# Altium footprint library Filter.PcbLib: 20 footprints (part 2 of 2)
Each footprint in its own frame and in the unit in brackets; x right, y up, seen from the top. Pads: shape width x height; smd on the part's side, far side on the other; paste and mask are expansions set on the pad; w line width, h text height; cw(c..) or ccw(c..) is an arc to the next point about the centre after c.
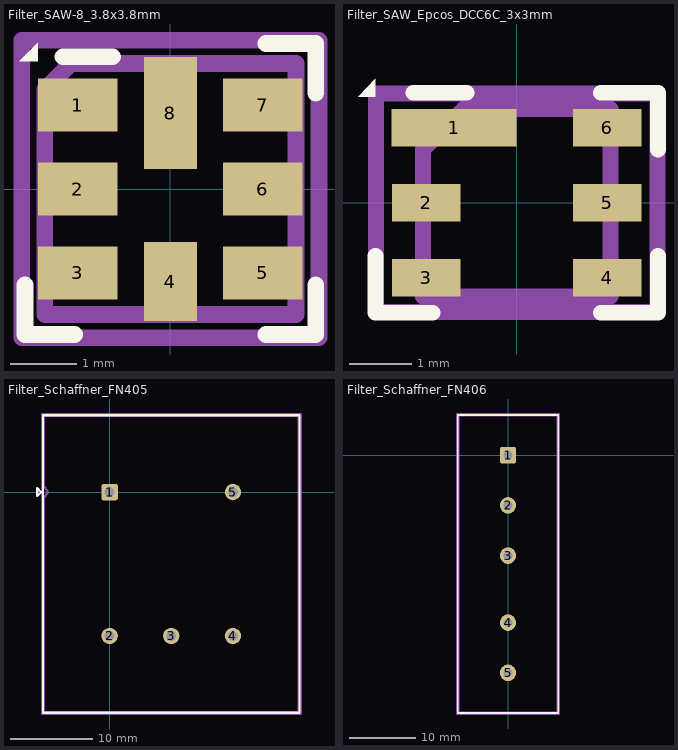
[diagram p1: the footprints below, top view; thin cyan lines are the x and y axes]

## Filter_SAW-8_3.8x3.8mm [mm]
pads (8):
  rect 1.2x0.8 smd: 1(-1.4,1.27) 2(-1.4,0) 3(-1.4,-1.27) 5(1.4,-1.27) 6(1.4,0) 7(1.4,1.27)
  rect 0.8x1.2 smd: 4(0,-1.4)
  rect 0.8x1.7 smd: 8(0,1.15)
F.SilkS:
  region: -2.01,1.93 -2.29,1.93 -2.01,2.21
  lines w0.254: -2.2,-1.45 -2.2,-2.2 -1.45,-2.2 ; -1.625,2 -0.875,2 ; 1.45,-2.2 2.2,-2.2 2.2,-1.45 ; 1.45,2.2 2.2,2.2 2.2,1.45
Top Assembly:
  lines w0.254: -1.9,-1.9 1.9,-1.9 1.9,1.9 -1.505,1.9 -1.9,1.505 -1.9,-1.9
  text "'.Designator'" at -4.087,-0.69 h1
Top Courtyard:
  lines w0.254: -2.25,-2.25 2.25,-2.25 2.25,2.25 -2.25,2.25 -2.25,-2.25
Top Designator:
  text ".Designator" at -7.808,-0.508 h1.52

## Filter_SAW_Epcos_DCC6C_3x3mm [mm]
pads (6):
  rect 2x0.6 smd: 1(-1,1.2)
  rect 1.1x0.6 smd: 2(-1.45,0) 3(-1.45,-1.2) 4(1.45,-1.2) 5(1.45,0) 6(1.45,1.2)
F.SilkS:
  region: -2.26,1.7 -2.54,1.7 -2.26,1.98
  lines w0.254: -2.26,-0.85 -2.26,-1.76 -1.35,-1.76 ; -1.655,1.76 -0.805,1.76 ; 1.35,-1.76 2.26,-1.76 2.26,-0.85 ; 1.35,1.76 2.26,1.76 2.26,0.85
Top Assembly:
  lines w0.254: -1.5,-1.5 1.5,-1.5 1.5,1.5 -0.85,1.5 -1.5,0.85 -1.5,-1.5
  text "'.Designator'" at -2.888,-0.593 h0.7
Top Courtyard:
  lines w0.254: -2.25,-1.75 2.25,-1.75 2.25,1.75 -2.25,1.75 -2.25,-1.75
Top Designator:
  text ".Designator" at -7.778,-0.461 h1.52

## Filter_Schaffner_FN405 [mm]
pads (5):
  rrect25% 2x2 hole 1.2: 1(0,0)
  round 2 hole 1.2: 2(0,-17.5) 3(7.5,-17.5) 4(15,-17.5) 5(15,0)
F.SilkS:
  lines w0.254: -8.8,-0.5 -8.3,0 -8.8,0.5 -8.8,-0.5 ; -8.1,-26.85 23.1,-26.85 23.1,9.35 -8.1,9.35 -8.1,-26.85
Top Assembly:
  lines w0.254: -8,-26.75 23,-26.75 23,9.25 -8,9.25 -8,0.7 -7.5,0 -8,-0.7 -8,-26.75
  text "'.Designator'" at 3.453,-9.59 h1
Top Courtyard:
  lines w0.254: -8.25,-27 23.25,-27 23.25,9.5 -8.25,9.5 -8.25,-27
Top Designator:
  text ".Designator" at -0.393,-9.258 h1.52

## Filter_Schaffner_FN406 [mm]
pads (5):
  rrect25% 2.5x2.5 hole 1.3: 1(0,0)
  round 2.5 hole 1.3: 2(0,-7.62) 3(0,-15.24) 4(0,-25.4) 5(0,-33.02)
F.SilkS:
  lines w0.254: -7.6,-39.11 7.6,-39.11 7.6,6.09 -7.6,6.09 -7.6,-39.11
Top Assembly:
  lines w0.254: -7.5,-39.01 7.5,-39.01 7.5,5.99 -7.5,5.99 -7.5,-39.01
  text "'.Designator'" at -4.047,-20.84 h1
Top Courtyard:
  lines w0.254: -7.75,-39.26 7.75,-39.26 7.75,6.24 -7.75,6.24 -7.75,-39.26
Top Designator:
  text ".Designator" at -7.618,-17.018 h1.52